# Altium footprint library Gyro-IAM20380_footprint.PcbLib: 1 footprints
Each footprint in its own frame and in the unit in brackets; x right, y up, seen from the top. Pads: shape width x height; smd on the part's side, far side on the other; paste and mask are expansions set on the pad; w line width, h text height; cw(c..) or ccw(c..) is an arc to the next point about the centre after c.
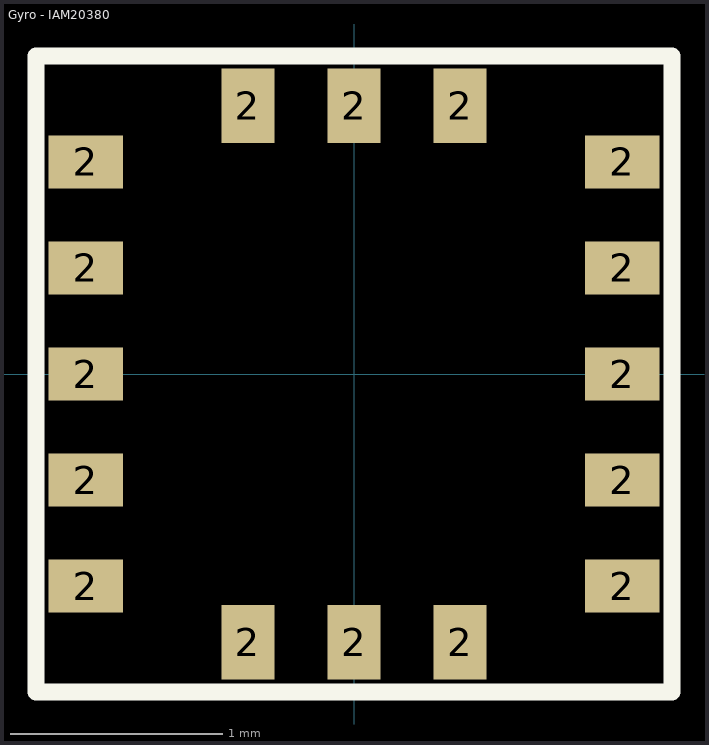
[diagram p0: the footprint, top view; thin cyan lines are the x and y axes]

## Gyro - IAM20380 [mm]
height 0.75
pads (16):
  rect 0.35x0.25 all layers, no hole: 2(-1.265,-1) 2(-1.265,-0.5) 2(-1.265,0) 2(-1.265,0.5) 2(-1.265,1) 2(1.265,-1) 2(1.265,-0.5) 2(1.265,0) 2(1.265,0.5) 2(1.265,1)
  rect 0.25x0.35 all layers, no hole: 2(-0.5,-1.265) 2(-0.5,1.265) 2(0,-1.265) 2(0,1.265) 2(0.5,-1.265) 2(0.5,1.265)
Top Overlay:
  lines w0.08: -1.5,-1.5 1.5,-1.5 1.5,1.5 -1.5,1.5 -1.5,-1.5